# Altium footprint library SamacSys.PcbLib: 11 footprints
Each footprint in its own frame and in the unit in brackets; x right, y up, seen from the top. Pads: shape width x height; smd on the part's side, far side on the other; paste and mask are expansions set on the pad; w line width, h text height; cw(c..) or ccw(c..) is an arc to the next point about the centre after c.
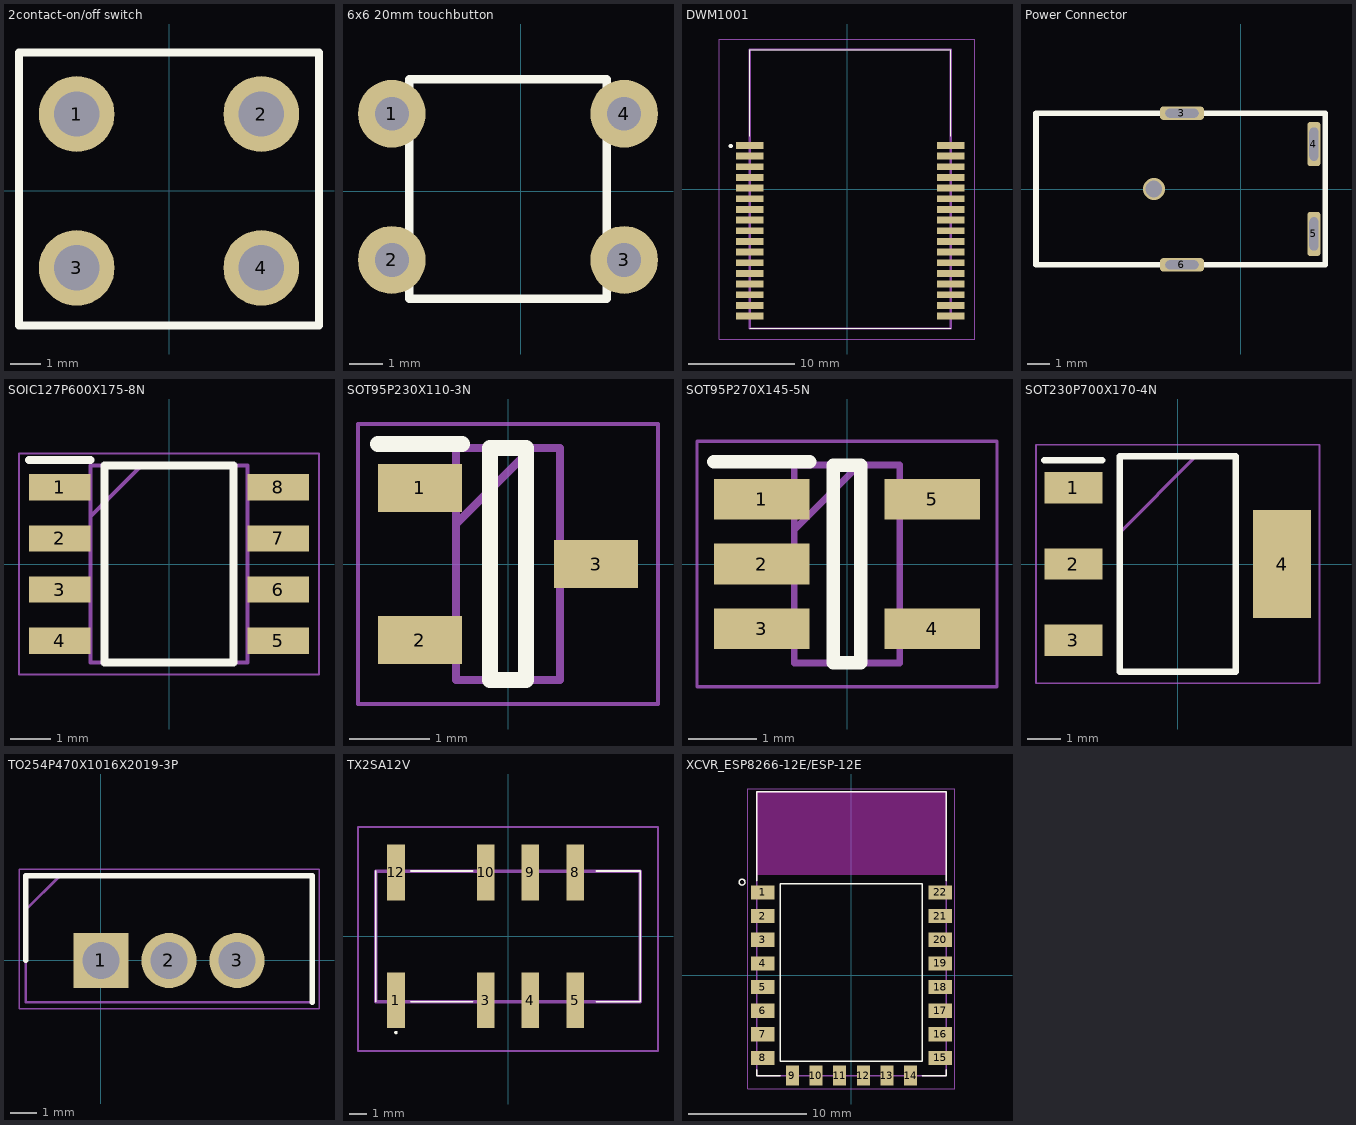
[diagram p0: the footprints below, top view; thin cyan lines are the x and y axes]

## 2contact-on/off switch [mm]
pads (4):
  round 2.5 hole 1.5: 1(-3.048,2.54) 2(3.048,2.54) 3(-3.048,-2.54) 4(3.048,-2.54)
Top Overlay:
  lines w0.254: -4.953,-4.445 -4.953,4.572 4.953,4.572 4.953,-4.445 -4.953,-4.445

## 6x6 20mm touchbutton [mm]
pads (4):
  round 2 hole 1: 1(-3.81,2.286) 2(-3.81,-2.032) 3(3.048,-2.032) 4(3.048,2.286)
Top Overlay:
  lines w0.254: -3.302,-3.175 2.54,-3.175 2.54,3.302 -3.302,3.302 -3.302,-3.175

## DWM1001 [mm]
pads (34):
  rect 2.54x0.65 smd: 1(-9.115,4.085) 2(-9.115,3.085) 3(-9.115,2.085) 4(-9.115,1.085) 5(-9.115,0.085) 6(-9.115,-0.915) 7(-9.115,-1.915) 8(-9.115,-2.915) 9(-9.115,-3.915) 10(-9.115,-4.915) 11(-9.115,-5.915) 12(-9.115,-6.915) 13(-9.115,-7.915) 14(-9.115,-8.915) 15(-9.115,-9.915) 16(-9.115,-10.915) 17(-9.115,-11.915) 18(9.725,-11.915) 19(9.725,-10.915) 20(9.725,-9.915) 21(9.725,-8.915) 22(9.725,-7.915) 23(9.725,-6.915) 24(9.725,-5.915) 25(9.725,-4.915) 26(9.725,-3.915) 27(9.725,-2.915) 28(9.725,-1.915) 29(9.725,-0.915) 30(9.725,0.085) 31(9.725,1.085) 32(9.725,2.085) 33(9.725,3.085) 34(9.725,4.085)
Top Overlay:
  lines w0.1: -9.115,-13.065 9.725,-13.065 ; -9.115,4.935 -9.115,13.065 9.725,13.065 9.725,4.935
  lines w0.2: -10.895,3.935 cw(c-10.895,4.035) -10.895,4.135 cw(c-10.895,4.035) -10.895,3.935
Mechanical 13:
  lines w0.2: -9.115,-13.065 -9.115,13.065 9.725,13.065 9.725,-13.065 -9.115,-13.065
Mechanical 15:
  lines w0.1: -11.995,-14.065 -11.995,14.065 11.995,14.065 11.995,-14.065 -11.995,-14.065
3D body "DWM1001.stp": height 3.1, standoff 0, extent -10.32,-13.065 10.93,13.065

## Power Connector [mm]
pads (4):
  rrect50% 2x0.6 hole 0.4 slot 1.5 at 0 deg: 3(-2.667,3.429) 6(-2.667,-3.429)
  rrect50% 0.6x2 hole 1.5 slot 0.4 at 0 deg: 4(3.302,2.032) 5(3.302,-2.032)
via -3.937,0 diameter 1 hole 0.75
Top Overlay:
  lines w0.254: -9.271,-3.429 -9.271,3.429 3.81,3.429 3.81,2.794 3.81,-3.429 -9.271,-3.429

## SOIC127P600X175-8N [mm]
pads (8):
  rect 1.525x0.65 smd: 1(-2.712,1.905) 2(-2.712,0.635) 3(-2.712,-0.635) 4(-2.712,-1.905) 5(2.712,-1.905) 6(2.712,-0.635) 7(2.712,0.635) 8(2.712,1.905)
Top Overlay:
  lines w0.2: -3.475,2.58 -1.95,2.58 ; -1.6,-2.45 -1.6,2.45 1.6,2.45 1.6,-2.45 -1.6,-2.45
Mechanical 13:
  lines w0.1: -1.95,1.18 -0.68,2.45 ; -1.95,-2.45 -1.95,2.45 1.95,2.45 1.95,-2.45 -1.95,-2.45
Mechanical 15:
  lines w0.05: -3.725,-2.75 -3.725,2.75 3.725,2.75 3.725,-2.75 -3.725,-2.75
3D body "NE555DR.stp": height 1.75, standoff 0, extent -3,-2.45 3,2.45

## SOT95P230X110-3N [mm]
pads (3):
  rect 1.05x0.6 smd: 1(-1.1,0.95) 2(-1.1,-0.95) 3(1.1,0)
Top Overlay:
  lines w0.2: -1.625,1.5 -0.575,1.5 ; -0.225,-1.45 0.225,-1.45 0.225,1.45 -0.225,1.45 -0.225,-1.45
Mechanical 13:
  lines w0.1: -0.65,0.5 0.3,1.45 ; -0.65,-1.45 0.65,-1.45 0.65,1.45 -0.65,1.45 -0.65,-1.45
Mechanical 15:
  lines w0.05: -1.875,-1.75 1.875,-1.75 1.875,1.75 -1.875,1.75 -1.875,-1.75
3D body "BC817-25.stp": height 1.1, standoff 0, extent -1.15,-1.45 1.15,1.45

## SOT95P270X145-5N [mm]
pads (5):
  rect 1.4x0.6 smd: 1(-1.25,0.95) 2(-1.25,0) 3(-1.25,-0.95) 4(1.25,-0.95) 5(1.25,0.95)
Top Overlay:
  lines w0.2: -1.95,1.5 -0.55,1.5 ; -0.2,-1.45 0.2,-1.45 0.2,1.45 -0.2,1.45 -0.2,-1.45
Mechanical 13:
  lines w0.1: -0.775,0.5 0.175,1.45 ; -0.775,-1.45 0.775,-1.45 0.775,1.45 -0.775,1.45 -0.775,-1.45
Mechanical 15:
  lines w0.05: -2.2,-1.8 2.2,-1.8 2.2,1.8 -2.2,1.8 -2.2,-1.8
3D body "MCP73831T-5ACI_OT.stp": height 1.45, standoff 0, extent -1.35,-1.45 1.35,1.45

## SOT230P700X170-4N [mm]
pads (4):
  rect 1.75x0.95 smd: 1(-3.15,2.3) 2(-3.15,0) 3(-3.15,-2.3)
  rect 1.75x3.25 smd: 4(3.15,0)
Top Overlay:
  lines w0.2: -4.025,3.125 -2.275,3.125 ; -1.75,-3.25 1.75,-3.25 1.75,3.25 -1.75,3.25 -1.75,-3.25
Mechanical 13:
  lines w0.1: -1.75,0.95 0.55,3.25 ; -1.75,-3.25 1.75,-3.25 1.75,3.25 -1.75,3.25 -1.75,-3.25
Mechanical 15:
  lines w0.05: -4.275,-3.6 4.275,-3.6 4.275,3.6 -4.275,3.6 -4.275,-3.6
3D body "MIC5209-3.3YS-TR.stp": height 1.7, standoff 0, extent -3.5,-3.25 3.5,3.25

## TO254P470X1016X2019-3P [mm]
pads (3):
  rect 2.055x2.055 hole 1.37: 1(0,0)
  round 2.055 hole 1.37: 2(2.535,0) 3(5.07,0)
Top Overlay:
  lines w0.2: -2.8,0 -2.8,3.15 7.87,3.15 7.87,-1.55
Mechanical 13:
  lines w0.1: -2.8,1.882 -1.532,3.15 ; -2.8,-1.55 -2.8,3.15 7.87,3.15 7.87,-1.55 -2.8,-1.55
Mechanical 15:
  lines w0.05: -3.05,-1.8 -3.05,3.4 8.12,3.4 8.12,-1.8 -3.05,-1.8
3D body "LM7805ACT.stp": height 18.54, standoff -17.53, extent -2.545,-1.55 7.615,3.15

## TX2SA12V [mm]
pads (8):
  rect 1x3.16 smd: 1(-6.35,-3.62) 3(-1.27,-3.62) 4(1.27,-3.62) 5(3.81,-3.62) 8(3.81,3.62) 9(1.27,3.62) 10(-1.27,3.62) 12(-6.35,3.62)
Top Overlay:
  lines w0.1: -7.5,-3.7 -7.5,3.62 ; -7.5,3.5 -7.5,3.7 ; -5.5,-3.7 -2,-3.7 ; -5.5,3.7 -2,3.7 ; 5,-3.7 7.5,-3.7 7.5,3.7 5,3.7 ; -6.35,-5.5 ccw(c-6.35,-5.45) -6.35,-5.4 ccw(c-6.35,-5.45) -6.35,-5.5
Mechanical 13:
  lines w0.2: -7.5,-3.7 7.5,-3.7 7.5,3.7 -7.5,3.7 -7.5,-3.7
Mechanical 15:
  lines w0.1: -8.5,-6.5 8.5,-6.5 8.5,6.2 -8.5,6.2 -8.5,-6.5
3D body "TX2SA-12V.stp": height 8.3, standoff 0, extent -7.5,-5.1 7.5,5.1

## XCVR_ESP8266-12E/ESP-12E [mm]
pads (22):
  rect 2x1.2 smd: 1(-7.5,7) 2(-7.5,5) 3(-7.5,3) 4(-7.5,1) 5(-7.5,-1) 6(-7.5,-3) 7(-7.5,-5) 8(-7.5,-7) 15(7.5,-7) 16(7.5,-5) 17(7.5,-3) 18(7.5,-1) 19(7.5,1) 20(7.5,3) 21(7.5,5) 22(7.5,7)
  rect 1.1x1.7 smd: 9(-5,-8.5) 10(-3,-8.5) 11(-1,-8.5) 12(1,-8.5) 13(3,-8.5) 14(5,-8.5)
Top Overlay:
  circle w0.127: c-9.25,7.875 r0.25
  lines w0.127: -8,-8 -8,-8.5 -6,-8.5 ; -8,8 -8,15.5 8,15.5 8,8 ; 6,-8.5 8,-8.5 8,-8 ; -6,-7.26 6,-7.26 6,7.74 -6,7.74 -6,-7.26
Keep-Out Layer:
  region: 8,8.51 -8.009,8.51 -8.009,15.5 8,15.5
  region: 8,8.51 -8.009,8.51 -8.009,15.5 8,15.5
Mechanical 13:
  lines w0.127: -8,-8.5 8,-8.5 8,15.5 -8,15.5 -8,-8.5
Mechanical 15:
  lines w0.05: -8.75,-9.625 8.75,-9.625 8.75,15.75 -8.75,15.75 -8.75,-9.625